# EAGLE library part MCP1640 (library sapphire)
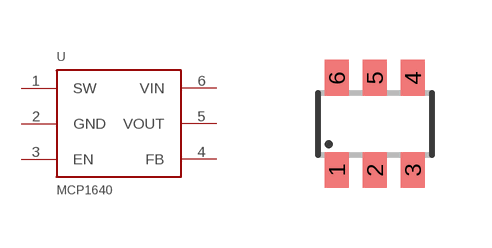
[diagram p11: symbol with the pads of SOT-23-6; footprint SOT-23-6]

Designator prefix -

## MCP1640  [SOT-23-6]
1  SW
2  GND
3  EN
4  FB
5  VOUT
6  VIN

## Footprint SOT-23-6 (pad centres in mm)
smd 0.6 x 0.9: 1 -0.95,-1.15; 2 0,-1.15; 3 0.95,-1.15; 4 0.95,1.15; 5 0,1.15; 6 -0.95,1.15